# EAGLE library part U-EXT (library SteveMarple)
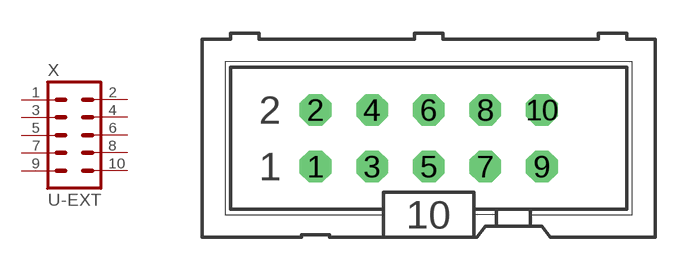
[diagram p28: symbol with the pads of CON-HARTING-ML10; footprint CON-HARTING-ML10]

Designator prefix X

## U-EXTML10  [CON-HARTING-ML10]
1  +3V3  pwr
2  GND  pwr
3  TXD
4  RXD
5  SCL
6  SDA
7  MISO
8  MOSI
9  SCK
10  !CS

## Footprint CON-HARTING-ML10 (pad centres in mm)
drill 0.914 octagon: 1 -5.08,-1.27; 2 -5.08,1.27; 3 -2.54,-1.27; 4 -2.54,1.27; 5 0,-1.27; 6 0,1.27; 7 2.54,-1.27; 8 2.54,1.27; 9 5.08,-1.27; 10 5.08,1.27